# Altium footprint library PrechargePCBLIB.PcbLib: 6 footprints
Each footprint in its own frame and in the unit in brackets; x right, y up, seen from the top. Pads: shape width x height; smd on the part's side, far side on the other; paste and mask are expansions set on the pad; w line width, h text height; cw(c..) or ccw(c..) is an arc to the next point about the centre after c.
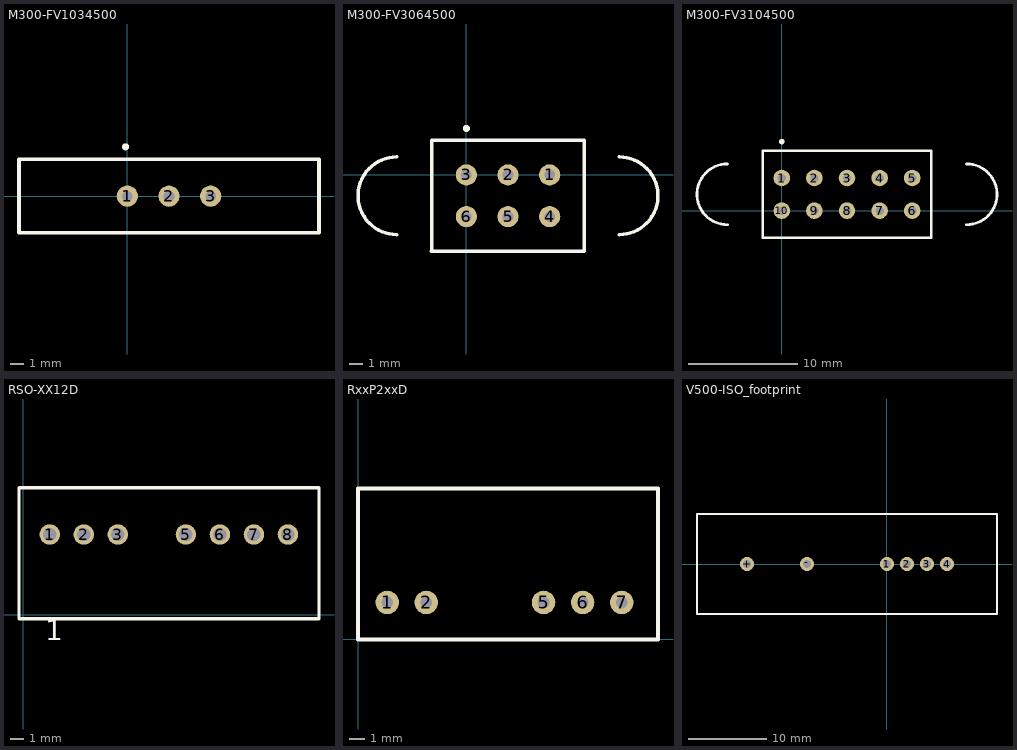
[diagram p0: the footprints below, top view; thin cyan lines are the x and y axes]

## M300-FV1034500 [mil]
pads (3):
  round 60 hole 30: 1(0,0) 2(118.11,0) 3(236.22,0)
Top Overlay:
  circle w10: c-5,140 r5
  lines w10: -307.09,-104.33 -307.09,104.33 543.31,104.33 543.31,-104.33 -307.09,-104.33

## M300-FV3064500 [mil]
pads (6):
  round 60 hole 30: 1(236.22,0) 2(118.11,0) 3(0,0) 4(236.22,-118.11) 5(118.11,-118.11) 6(0,-118.11)
Top Overlay:
  circle w10: c0,131.89 r5
  lines w10: -196.85,-169.29 cw(c-196.85,-59.06) -196.85,51.18 ; -98.9,-216.54 334.65,-216.54 334.65,98.43 -98.43,98.43 -98.43,-216.54 ; 433.07,-169.29 ccw(c433.07,-59.06) 433.07,51.18
3D body "m300-mv30645m1_asm.stp": height 276.09, standoff -125.48, extent -301.17,-236.21 537.41,118.12

## M300-FV3104500 [mil]
pads (10):
  round 60 hole 30: 1(0,118.11) 2(118.11,118.11) 3(236.22,118.11) 4(354.33,118.11) 5(472.44,118.11) 6(472.44,0) 7(354.33,0) 8(236.22,0) 9(118.11,0) 10(0,0)
Top Overlay:
  circle w10: c0,250 r5
  lines w10: -196.85,-51.18 cw(c-196.85,59.06) -196.85,169.29 ; 669.29,-51.18 ccw(c669.29,59.06) 669.29,169.29 ; -68.9,-98.43 541.34,-98.43 541.34,216.54 -68.9,216.54 -68.9,-98.43

## RSO-XX12D [mm] "Econoline DCDC +/- 12V output SIP 8 Package"
pads (7):
  round 1.524 hole 1: 1(2,6) 2(4.54,6) 3(7.08,6) 5(12.16,6) 6(14.7,6) 7(17.24,6) 8(19.78,6)
Top Overlay:
  lines w0.254: -0.3,-0.3 -0.3,9.5 22.1,9.5 22.1,-0.3 -0.3,-0.3
  text "1" at 1.651,-1.905 h1.52
3D body: height 11.1, standoff 0.5, extent 0,0.001 21.8,9.199

## RxxP2xxD [mil]
pads (5):
  round 60 hole 30: 1(74.8,94.49) 2(174.8,94.49) 5(474.8,94.49) 6(574.8,94.49) 7(674.8,94.49)
Top Overlay:
  lines w10: 0,0 0,385.83 767.72,385.83 767.72,0 0,0

## V500-ISO_footprint [mil]
height 1000
pads (6):
  round 70 hole 40: 1(0,0) 2(100,0) 3(200,0) 4(300,0) +(-700,0) -(-400,0)
Top Overlay:
  lines w10: -950,-250 550,-250 550,250 -950,250 -950,-250
3D body: height 1000, standoff 50, extent -950,-250 550,250